# EAGLE library part DIP04S (library 09_1_switch)
DIL/CODE SWITCH
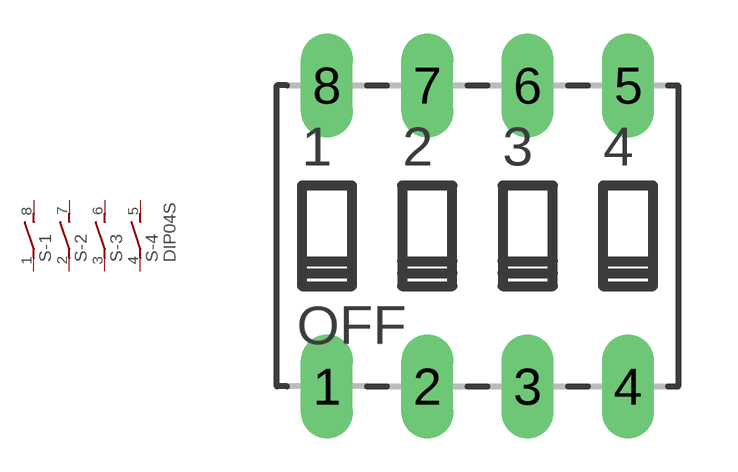
[diagram p49: symbol with the pads of DIP04S; footprint DIP04S]

Designator prefix S; gates -1=S -2=S -3=S -4=S+V

## DIP04S (OC_FARNELL: unknown; OC_NEWARK: unknown)  [DIP04S]
1  -1:1  pas
2  -2:1  pas
3  -3:1  pas
4  -4:1  pas
5  -4:2  pas
6  -3:2  pas
7  -2:2  pas
8  -1:2  pas

## Footprint DIP04S (pad centres in mm)
DIL/CODE SWITCH small
drill 0.813 long: 1 -3.81,-3.81; 2 -1.27,-3.81; 3 1.27,-3.81; 4 3.81,-3.81; 5 3.81,3.81; 6 1.27,3.81; 7 -1.27,3.81; 8 -3.81,3.81